# EAGLE library part PE4259 (library PE4259)
SPDT High Power UltraCMOS 10 MHz–3.0 GHz RF Switch Check availability <https://pricing.snapeda.com/parts/PE4259/pSemi/view-part?ref=eda>
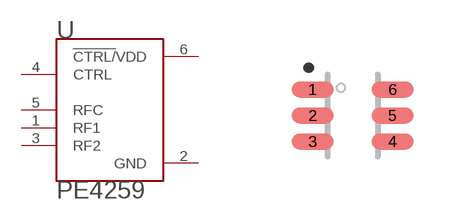
[diagram p0: symbol with the pads of SOT65P215X110-6N; footprint SOT65P215X110-6N]

Designator prefix U

## PE4259 (Availability: Not in stock; Check_prices: https://www.snapeda.com/parts/PE4259/pSemi/view-part/?ref=eda; Description: RF Switch IC General Purpose SPDT 3 GHz 50Ohm SC-70-6; MF: pSemi; MP: PE4259; Package: SOT-363 Peregrine Semiconductor; Price: None; SnapEDA_Link: https://www.snapeda.com/parts/PE4259/pSemi/view-part/?ref=snap)  [SOT65P215X110-6N]
1  RF1  pas
2  GND  pwr
3  RF2  pas
4  CTRL  in
5  RFC  pas
6  !CTRL/!VDD  pwr

## Footprint SOT65P215X110-6N (pad centres in mm)
smd 1.05 x 0.4: 1 -1,0.65; 2 -1,0; 3 -1,-0.65; 4 1,-0.65; 5 1,0; 6 1,0.65